# Altium footprint library IC_SMD_DUAL.PCBLIB: 187 footprints (part 5 of 12)
Each footprint in its own frame and in the unit in brackets; x right, y up, seen from the top. Pads: shape width x height; smd on the part's side, far side on the other; paste and mask are expansions set on the pad; w line width, h text height; cw(c..) or ccw(c..) is an arc to the next point about the centre after c.
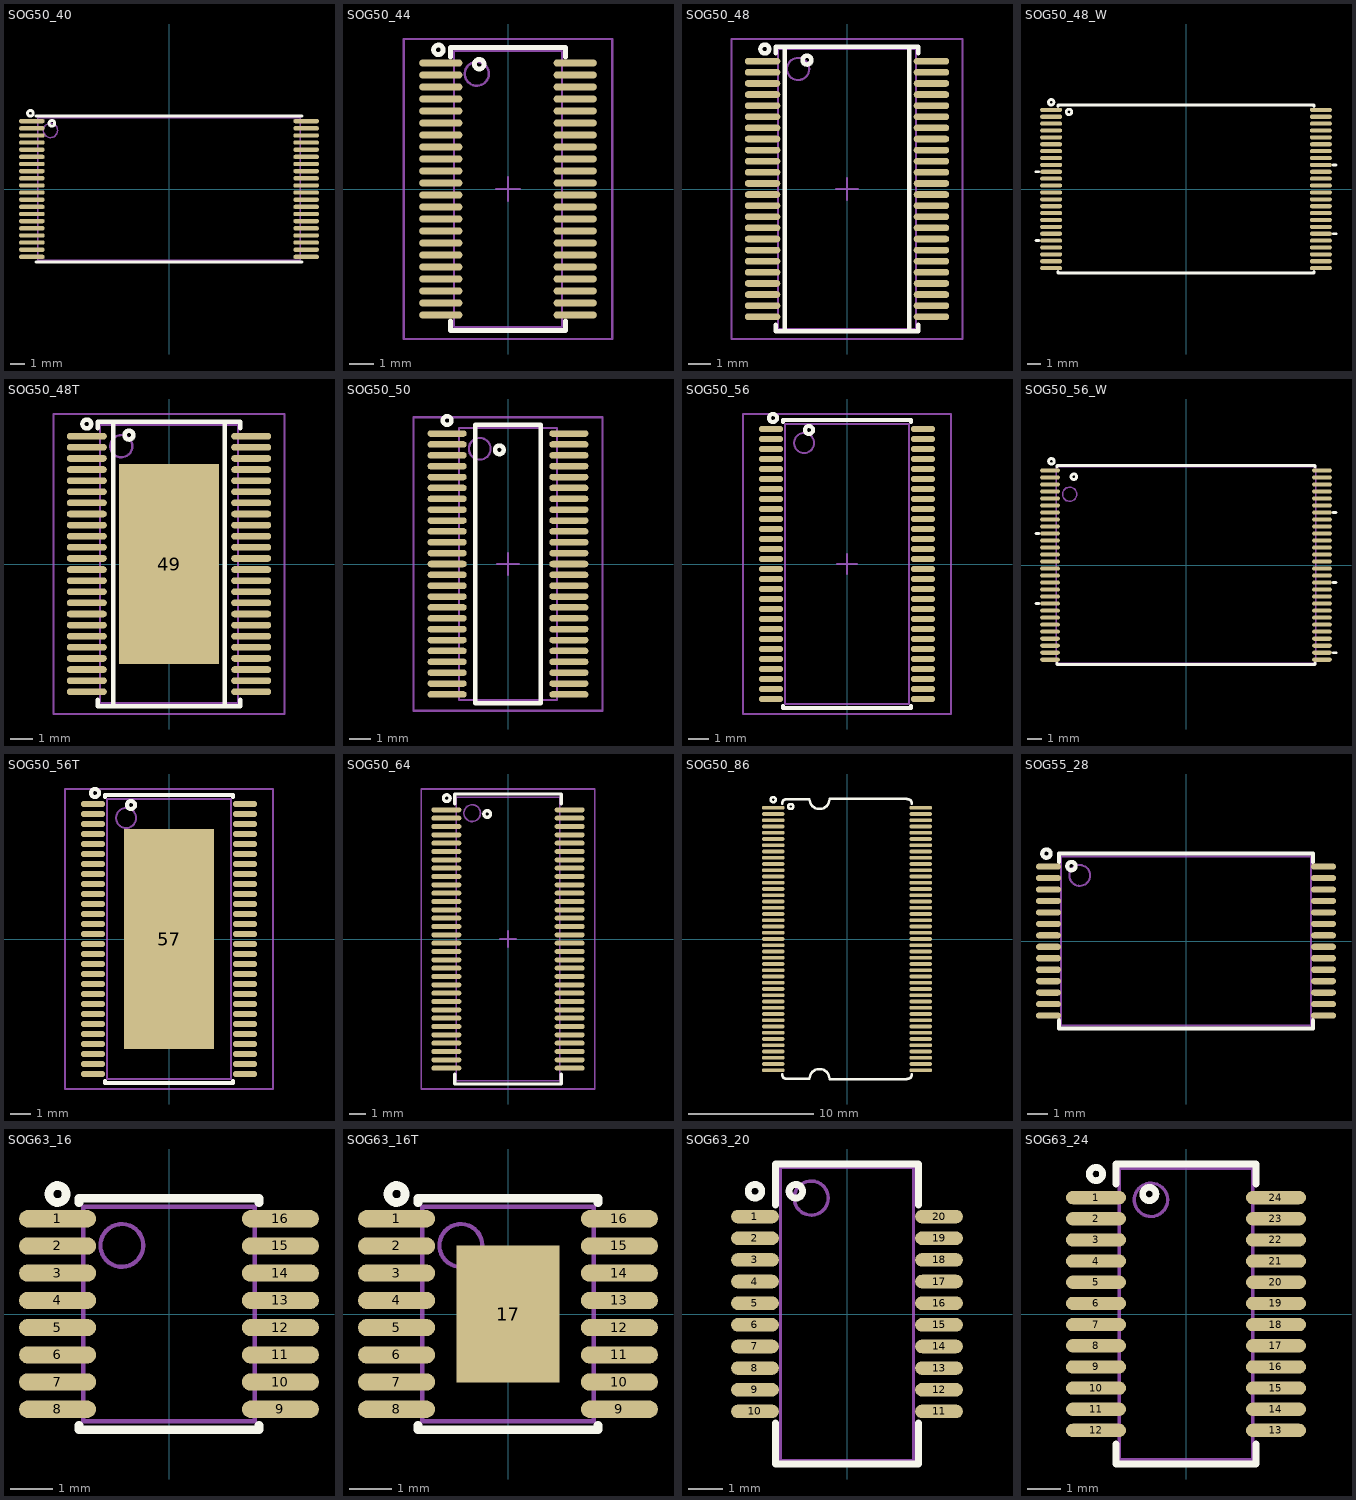
[diagram p4: the footprints below, top view; thin cyan lines are the x and y axes]

## SOG50_40 [mm] "TS040, TSOP40, TSSOP, 40-Leads, Body 10.00x18.40mm, Pitch 0.50mm"
height 1.2
pads (40):
  oval 1.8x0.3 smd mask+0.075: 1(-9.6,4.75) 2(-9.6,4.25) 3(-9.6,3.75) 4(-9.6,3.25) 5(-9.6,2.75) 6(-9.6,2.25) 7(-9.6,1.75) 8(-9.6,1.25) 9(-9.6,0.75) 10(-9.6,0.25) 11(-9.6,-0.25) 12(-9.6,-0.75) 13(-9.6,-1.25) 14(-9.6,-1.75) 15(-9.6,-2.25) 16(-9.6,-2.75) 17(-9.6,-3.25) 18(-9.6,-3.75) 19(-9.6,-4.25) 20(-9.6,-4.75) 21(9.6,-4.75) 22(9.6,-4.25) 23(9.6,-3.75) 24(9.6,-3.25) 25(9.6,-2.75) 26(9.6,-2.25) 27(9.6,-1.75) 28(9.6,-1.25) 29(9.6,-0.75) 30(9.6,-0.25) 31(9.6,0.25) 32(9.6,0.75) 33(9.6,1.25) 34(9.6,1.75) 35(9.6,2.25) 36(9.6,2.75) 37(9.6,3.25) 38(9.6,3.75) 39(9.6,4.25) 40(9.6,4.75)
TopOverlay:
  circle w0.2: c-8.2,4.6 r0.2
  circle w0.2: c-9.7,5.3 r0.2
  lines w0.2: -9.3,-5.1 9.3,-5.1 ; -9.3,5.1 9.3,5.1
Mechanical13:
  circle w0.1: c-8.3,4.1 r0.5
  lines w0.1: -9.2,-5 9.2,-5 9.2,5 -9.2,5 -9.2,-5
3D body: height 1.2, standoff 0.05, extent -9.2,-5 9.2,5

## SOG50_44 [mm] "DBT TSSOP (TI), MO-153 (JEDEC), 44Lead, pitch: 0.5mm, 11.5x4.4x1.2mm"
height 1.2
pads (44):
  oval 1.8x0.3 smd mask+0.075: 1(-2.8,5.25) 2(-2.8,4.75) 3(-2.8,4.25) 4(-2.8,3.75) 5(-2.8,3.25) 6(-2.8,2.75) 7(-2.8,2.25) 8(-2.8,1.75) 9(-2.8,1.25) 10(-2.8,0.75) 11(-2.8,0.25) 12(-2.8,-0.25) 13(-2.8,-0.75) 14(-2.8,-1.25) 15(-2.8,-1.75) 16(-2.8,-2.25) 17(-2.8,-2.75) 18(-2.8,-3.25) 19(-2.8,-3.75) 20(-2.8,-4.25) 21(-2.8,-4.75) 22(-2.8,-5.25) 23(2.8,-5.25) 24(2.8,-4.75) 25(2.8,-4.25) 26(2.8,-3.75) 27(2.8,-3.25) 28(2.8,-2.75) 29(2.8,-2.25) 30(2.8,-1.75) 31(2.8,-1.25) 32(2.8,-0.75) 33(2.8,-0.25) 34(2.8,0.25) 35(2.8,0.75) 36(2.8,1.25) 37(2.8,1.75) 38(2.8,2.25) 39(2.8,2.75) 40(2.8,3.25) 41(2.8,3.75) 42(2.8,4.25) 43(2.8,4.75) 44(2.8,5.25)
TopOverlay:
  circle w0.2: c-1.2,5.2 r0.2
  circle w0.2: c-2.9,5.8 r0.2
  lines w0.2: -2.4,-5.5 -2.4,-5.9 2.4,-5.9 2.4,-5.5 ; -2.4,5.5 -2.4,5.9 2.4,5.9 2.4,5.5
Mechanical13:
  circle w0.1: c-1.3,4.8 r0.5
  lines w0.1: -2.25,-5.75 2.25,-5.75 2.25,5.75 -2.25,5.75 -2.25,-5.75
Mechanical15:
  lines w0.1: -0.5,0 0.5,0 ; 0,-0.5 0,0.5 ; -4.35,-6.25 4.35,-6.25 4.35,6.25 -4.35,6.25 -4.35,-6.25
3D body: height 1.2, standoff 0.05, extent -2.25,-5.75 2.25,5.75

## SOG50_48 [mm] "DGG, MO-153-ED, SOT362-1, TSSOP48, pitch: 0.5mm, 12.5x6.1x1.2mm"
height 1.2
pads (48):
  oval 1.6x0.3 smd mask+0.075: 1(-3.8,5.75) 2(-3.8,5.25) 3(-3.8,4.75) 4(-3.8,4.25) 5(-3.8,3.75) 6(-3.8,3.25) 7(-3.8,2.75) 8(-3.8,2.25) 9(-3.8,1.75) 10(-3.8,1.25) 11(-3.8,0.75) 12(-3.8,0.25) 13(-3.8,-0.25) 14(-3.8,-0.75) 15(-3.8,-1.25) 16(-3.8,-1.75) 17(-3.8,-2.25) 18(-3.8,-2.75) 19(-3.8,-3.25) 20(-3.8,-3.75) 21(-3.8,-4.25) 22(-3.8,-4.75) 23(-3.8,-5.25) 24(-3.8,-5.75) 25(3.8,-5.75) 26(3.8,-5.25) 27(3.8,-4.75) 28(3.8,-4.25) 29(3.8,-3.75) 30(3.8,-3.25) 31(3.8,-2.75) 32(3.8,-2.25) 33(3.8,-1.75) 34(3.8,-1.25) 35(3.8,-0.75) 36(3.8,-0.25) 37(3.8,0.25) 38(3.8,0.75) 39(3.8,1.25) 40(3.8,1.75) 41(3.8,2.25) 42(3.8,2.75) 43(3.8,3.25) 44(3.8,3.75) 45(3.8,4.25) 46(3.8,4.75) 47(3.8,5.25) 48(3.8,5.75)
TopOverlay:
  circle w0.2: c-1.8,5.8 r0.2
  circle w0.2: c-3.7,6.3 r0.2
  lines w0.2: -3.2,-6.1 -3.2,-6.4 -2.5,-6.4 2.5,-6.4 3.2,-6.4 3.2,-6.1 ; -3.2,6.1 -3.2,6.4 -2.5,6.4 2.5,6.4 3.2,6.4 3.2,6.1 ; -2.8,-6.4 -2.8,6.4 ; 2.8,-6.4 2.8,6.4
Mechanical13:
  circle w0.1: c-2.2,5.4 r0.5
  lines w0.1: -3.1,-6.3 3.1,-6.3 3.1,6.3 -3.1,6.3 -3.1,-6.3
Mechanical15:
  lines w0.1: -0.5,0 0.5,0 ; 0,-0.5 0,0.5 ; -5.2,-6.75 -5.2,6.75 5.2,6.75 5.2,-6.75 -5.2,-6.75
3D body "SOg50_48-.step": height 1.2, standoff 0, extent -4.05,-6.3 4.05,6.3

## SOG50_48_W [mm] "TSOP I, 12x20mm, pitch: 0.5mm"
height 1.2
pads (48):
  oval 1.6x0.3 smd mask+0.075: 1(-9.8,5.75) 2(-9.8,5.25) 3(-9.8,4.75) 4(-9.8,4.25) 5(-9.8,3.75) 6(-9.8,3.25) 7(-9.8,2.75) 8(-9.8,2.25) 9(-9.8,1.75) 10(-9.8,1.25) 11(-9.8,0.75) 12(-9.8,0.25) 13(-9.8,-0.25) 14(-9.8,-0.75) 15(-9.8,-1.25) 16(-9.8,-1.75) 17(-9.8,-2.25) 18(-9.8,-2.75) 19(-9.8,-3.25) 20(-9.8,-3.75) 21(-9.8,-4.25) 22(-9.8,-4.75) 23(-9.8,-5.25) 24(-9.8,-5.75) 25(9.8,-5.75) 26(9.8,-5.25) 27(9.8,-4.75) 28(9.8,-4.25) 29(9.8,-3.75) 30(9.8,-3.25) 31(9.8,-2.75) 32(9.8,-2.25) 33(9.8,-1.75) 34(9.8,-1.25) 35(9.8,-0.75) 36(9.8,-0.25) 37(9.8,0.25) 38(9.8,0.75) 39(9.8,1.25) 40(9.8,1.75) 41(9.8,2.25) 42(9.8,2.75) 43(9.8,3.25) 44(9.8,3.75) 45(9.8,4.25) 46(9.8,4.75) 47(9.8,5.25) 48(9.8,5.75)
TopOverlay:
  circle w0.2: c-8.5,5.6 r0.2
  circle w0.2: c-9.8,6.3 r0.2
  lines w0.2: -10.9,-3.75 -10.7,-3.75 ; -10.9,1.25 -10.7,1.25 ; -9.3,-6 -9.3,-6.1 9.3,-6.1 9.3,-6 ; -9.3,6 -9.3,6.1 9.3,6.1 9.3,6 ; 10.7,-3.25 10.9,-3.25 ; 10.7,1.75 10.9,1.75
3D body "User Library-TSOP48-1.STEP": height 1.2, standoff 0, extent -10.1,-6.05 10.1,6.05

## SOG50_48T [mm] "TSSOP 6.1mm(MAXIM), MO-153-EDT (JEDEC), 48Lead, pitch: 0.5mm, 12.5x6.1x1.2mm"
height 1.2
pads (49):
  oval 1.8x0.3 smd mask+0.075: 1(-3.7,5.75) 2(-3.7,5.25) 3(-3.7,4.75) 4(-3.7,4.25) 5(-3.7,3.75) 6(-3.7,3.25) 7(-3.7,2.75) 8(-3.7,2.25) 9(-3.7,1.75) 10(-3.7,1.25) 11(-3.7,0.75) 12(-3.7,0.25) 13(-3.7,-0.25) 14(-3.7,-0.75) 15(-3.7,-1.25) 16(-3.7,-1.75) 17(-3.7,-2.25) 18(-3.7,-2.75) 19(-3.7,-3.25) 20(-3.7,-3.75) 21(-3.7,-4.25) 22(-3.7,-4.75) 23(-3.7,-5.25) 24(-3.7,-5.75) 25(3.7,-5.75) 26(3.7,-5.25) 27(3.7,-4.75) 28(3.7,-4.25) 29(3.7,-3.75) 30(3.7,-3.25) 31(3.7,-2.75) 32(3.7,-2.25) 33(3.7,-1.75) 34(3.7,-1.25) 35(3.7,-0.75) 36(3.7,-0.25) 37(3.7,0.25) 38(3.7,0.75) 39(3.7,1.25) 40(3.7,1.75) 41(3.7,2.25) 42(3.7,2.75) 43(3.7,3.25) 44(3.7,3.75) 45(3.7,4.25) 46(3.7,4.75) 47(3.7,5.25) 48(3.7,5.75)
  rect 4.5x9 smd paste-5 mask+0.1: 49(0,0)
TopOverlay:
  circle w0.2: c-3.7,6.3 r0.2
  circle w0.2: c-1.8,5.8 r0.2
  lines w0.2: -3.2,-6.1 -3.2,-6.4 -2.5,-6.4 ; -3.2,6.1 -3.2,6.4 -2.5,6.4 ; 3.2,-6.1 3.2,-6.4 2.5,-6.4 ; 3.2,6.1 3.2,6.4 2.5,6.4 ; -2.5,-6.4 -2.5,6.4 ; -2.5,-6.4 2.5,-6.4 ; -2.5,6.4 2.5,6.4 ; 2.5,-6.4 2.5,6.4
TopPaste:
  region: -0.2,0.2 -0.2,2 -2,2 -2,0.2
  region: -0.2,2.4 -0.2,4.2 -2,4.2 -2,2.4
  region: 2,2.4 2,4.2 0.2,4.2 0.2,2.4
  region: 2,0.2 2,2 0.2,2 0.2,0.2
  region: 0.2,-0.2 0.2,-2 2,-2 2,-0.2
  region: 0.2,-2.4 0.2,-4.2 2,-4.2 2,-2.4
  region: -2,-2.4 -2,-4.2 -0.2,-4.2 -0.2,-2.4
  region: -2,-0.2 -2,-2 -0.2,-2 -0.2,-0.2
Mechanical13:
  circle w0.1: c-2.15,5.3 r0.5
  lines w0.1: -3.1,-6.25 3.1,-6.25 3.1,6.25 -3.1,6.25 -3.1,-6.25
Mechanical15:
  lines w0.1: -0.5,0 0.5,0 ; 0,-0.5 0,0.5 ; -5.2,-6.75 5.2,-6.75 5.2,6.75 -5.2,6.75 -5.2,-6.75
3D body "SOg50_48-.step": height 1.2, standoff 0, extent -4.05,-6.3 4.05,6.3

## SOG50_50 [mm] "DBT TSSOP (TI), MO-153 (JEDEC), 50Lead, pitch: 0.5mm, 12.5x4.4x1.2mm"
height 1.2
pads (50):
  oval 1.8x0.3 smd mask+0.075: 1(-2.8,6) 2(-2.8,5.5) 3(-2.8,5) 4(-2.8,4.5) 5(-2.8,4) 6(-2.8,3.5) 7(-2.8,3) 8(-2.8,2.5) 9(-2.8,2) 10(-2.8,1.5) 11(-2.8,1) 12(-2.8,0.5) 13(-2.8,0) 14(-2.8,-0.5) 15(-2.8,-1) 16(-2.8,-1.5) 17(-2.8,-2) 18(-2.8,-2.5) 19(-2.8,-3) 20(-2.8,-3.5) 21(-2.8,-4) 22(-2.8,-4.5) 23(-2.8,-5) 24(-2.8,-5.5) 25(-2.8,-6) 26(2.8,-6) 27(2.8,-5.5) 28(2.8,-5) 29(2.8,-4.5) 30(2.8,-4) 31(2.8,-3.5) 32(2.8,-3) 33(2.8,-2.5) 34(2.8,-2) 35(2.8,-1.5) 36(2.8,-1) 37(2.8,-0.5) 38(2.8,0) 39(2.8,0.5) 40(2.8,1) 41(2.8,1.5) 42(2.8,2) 43(2.8,2.5) 44(2.8,3) 45(2.8,3.5) 46(2.8,4) 47(2.8,4.5) 48(2.8,5) 49(2.8,5.5) 50(2.8,6)
TopOverlay:
  circle w0.2: c-2.8,6.6 r0.2
  circle w0.2: c-0.4,5.25 r0.2
  lines w0.2: -1.5,-6.4 -1.5,6.4 1.5,6.4 1.5,-6.4 -1.5,-6.4
Mechanical13:
  circle w0.1: c-1.3,5.3 r0.5
  lines w0.1: -2.25,-6.25 -2.25,6.25 2.25,6.25 2.25,-6.25 -2.25,-6.25
Mechanical15:
  lines w0.1: -0.5,0 0.5,0 ; 0,-0.5 0,0.5 ; -4.35,-6.75 -4.35,6.75 4.35,6.75 4.35,-6.75 -4.35,-6.75
3D body: height 1.2, standoff 0.05, extent -2.25,-6.25 2.25,6.25

## SOG50_56 [mm] "DGG TSSOP (TI), MO-153-EE (JEDEC), 56Lead, pitch: 0.5mm, 14x6.1x1.2mm"
height 1.2
pads (56):
  oval 1.2x0.3 smd mask+0.075: 1(-3.8,6.75) 2(-3.8,6.25) 3(-3.8,5.75) 4(-3.8,5.25) 5(-3.8,4.75) 6(-3.8,4.25) 7(-3.8,3.75) 8(-3.8,3.25) 9(-3.8,2.75) 10(-3.8,2.25) 11(-3.8,1.75) 12(-3.8,1.25) 13(-3.8,0.75) 14(-3.8,0.25) 15(-3.8,-0.25) 16(-3.8,-0.75) 17(-3.8,-1.25) 18(-3.8,-1.75) 19(-3.8,-2.25) 20(-3.8,-2.75) 21(-3.8,-3.25) 22(-3.8,-3.75) 23(-3.8,-4.25) 24(-3.8,-4.75) 25(-3.8,-5.25) 26(-3.8,-5.75) 27(-3.8,-6.25) 28(-3.8,-6.75) 29(3.8,-6.75) 30(3.8,-6.25) 31(3.8,-5.75) 32(3.8,-5.25) 33(3.8,-4.75) 34(3.8,-4.25) 35(3.8,-3.75) 36(3.8,-3.25) 37(3.8,-2.75) 38(3.8,-2.25) 39(3.8,-1.75) 40(3.8,-1.25) 41(3.8,-0.75) 42(3.8,-0.25) 43(3.8,0.25) 44(3.8,0.75) 45(3.8,1.25) 46(3.8,1.75) 47(3.8,2.25) 48(3.8,2.75) 49(3.8,3.25) 50(3.8,3.75) 51(3.8,4.25) 52(3.8,4.75) 53(3.8,5.25) 54(3.8,5.75) 55(3.8,6.25) 56(3.8,6.75)
TopOverlay:
  circle w0.2: c-3.7,7.3 r0.2
  circle w0.2: c-1.9,6.7 r0.2
  lines w0.2: -3.2,-7.1 -3.2,-7.2 -2.5,-7.2 2.5,-7.2 3.2,-7.2 3.2,-7.1 ; -3.2,7.1 -3.2,7.2 -2.5,7.2 2.5,7.2 3.2,7.2 3.2,7.1
Mechanical13:
  circle w0.1: c-2.15,6.05 r0.5
  lines w0.1: -3.1,-7 3.1,-7 3.1,7 -3.1,7 -3.1,-7
Mechanical15:
  lines w0.1: -0.5,0 0.5,0 ; 0,-0.5 0,0.5 ; -5.2,-7.5 5.2,-7.5 5.2,7.5 -5.2,7.5 -5.2,-7.5
3D body "User Library-TSSOP-56 14_1x6_2.STEP": height 1.1, standoff 0, extent -3.95,-7.05 3.95,7.05

## SOG50_56_W [mm] "TSOP56, TS056, pitch: 0.5mm, 18.4x14mm"
height 1.2
pads (56):
  oval 1.4x0.3 smd mask+0.075: 1(-9.7,6.75) 2(-9.7,6.25) 3(-9.7,5.75) 4(-9.7,5.25) 5(-9.7,4.75) 6(-9.7,4.25) 7(-9.7,3.75) 8(-9.7,3.25) 9(-9.7,2.75) 10(-9.7,2.25) 11(-9.7,1.75) 12(-9.7,1.25) 13(-9.7,0.75) 14(-9.7,0.25) 15(-9.7,-0.25) 16(-9.7,-0.75) 17(-9.7,-1.25) 18(-9.7,-1.75) 19(-9.7,-2.25) 20(-9.7,-2.75) 21(-9.7,-3.25) 22(-9.7,-3.75) 23(-9.7,-4.25) 24(-9.7,-4.75) 25(-9.7,-5.25) 26(-9.7,-5.75) 27(-9.7,-6.25) 28(-9.7,-6.75) 29(9.7,-6.75) 30(9.7,-6.25) 31(9.7,-5.75) 32(9.7,-5.25) 33(9.7,-4.75) 34(9.7,-4.25) 35(9.7,-3.75) 36(9.7,-3.25) 37(9.7,-2.75) 38(9.7,-2.25) 39(9.7,-1.75) 40(9.7,-1.25) 41(9.7,-0.75) 42(9.7,-0.25) 43(9.7,0.25) 44(9.7,0.75) 45(9.7,1.25) 46(9.7,1.75) 47(9.7,2.25) 48(9.7,2.75) 49(9.7,3.25) 50(9.7,3.75) 51(9.7,4.25) 52(9.7,4.75) 53(9.7,5.25) 54(9.7,5.75) 55(9.7,6.25) 56(9.7,6.75)
TopOverlay:
  circle w0.2: c-9.6,7.4 r0.2
  circle w0.2: c-8,6.3 r0.2
  lines w0.2: -10.7,-2.75 -10.5,-2.75 ; -10.7,2.25 -10.5,2.25 ; -9.2,-7 -9.2,-7.1 9.2,-7.1 9.2,-7 ; -9.2,7 -9.2,7.1 9.2,7.1 9.2,7 ; 10.5,-6.25 10.7,-6.25 ; 10.5,-1.25 10.7,-1.25 ; 10.5,3.75 10.7,3.75
Mechanical13:
  circle w0.1: c-8.3,5.05 r0.5
  lines w0.1: -9.25,-7 -9.25,7 9.25,7 9.25,-7 -9.25,-7
3D body "User Library-TSOP1-56_NU.STEP": height 1.29, standoff -0.39, extent -10.017,-7.27 10.1,7.27

## SOG50_56T [mm] "TSSOP, MO-153-EET (JEDEC), 56Lead, pitch: 0.5mm, 14x6.1x1.2mm"
height 1.2
pads (57):
  oval 1.2x0.3 smd mask+0.075: 1(-3.8,6.75) 2(-3.8,6.25) 3(-3.8,5.75) 4(-3.8,5.25) 5(-3.8,4.75) 6(-3.8,4.25) 7(-3.8,3.75) 8(-3.8,3.25) 9(-3.8,2.75) 10(-3.8,2.25) 11(-3.8,1.75) 12(-3.8,1.25) 13(-3.8,0.75) 14(-3.8,0.25) 15(-3.8,-0.25) 16(-3.8,-0.75) 17(-3.8,-1.25) 18(-3.8,-1.75) 19(-3.8,-2.25) 20(-3.8,-2.75) 21(-3.8,-3.25) 22(-3.8,-3.75) 23(-3.8,-4.25) 24(-3.8,-4.75) 25(-3.8,-5.25) 26(-3.8,-5.75) 27(-3.8,-6.25) 28(-3.8,-6.75) 29(3.8,-6.75) 30(3.8,-6.25) 31(3.8,-5.75) 32(3.8,-5.25) 33(3.8,-4.75) 34(3.8,-4.25) 35(3.8,-3.75) 36(3.8,-3.25) 37(3.8,-2.75) 38(3.8,-2.25) 39(3.8,-1.75) 40(3.8,-1.25) 41(3.8,-0.75) 42(3.8,-0.25) 43(3.8,0.25) 44(3.8,0.75) 45(3.8,1.25) 46(3.8,1.75) 47(3.8,2.25) 48(3.8,2.75) 49(3.8,3.25) 50(3.8,3.75) 51(3.8,4.25) 52(3.8,4.75) 53(3.8,5.25) 54(3.8,5.75) 55(3.8,6.25) 56(3.8,6.75)
  rect 4.5x11 smd paste-6 mask+0.1: 57(0,0)
TopOverlay:
  circle w0.2: c-1.9,6.7 r0.2
  circle w0.2: c-3.7,7.3 r0.2
  lines w0.2: -3.2,-7.1 -3.2,-7.2 -2.5,-7.2 2.5,-7.2 3.2,-7.2 3.2,-7.1 ; -3.2,7.1 -3.2,7.2 -2.5,7.2 2.5,7.2 3.2,7.2 3.2,7.1
TopPaste:
  region: 0.2,-0.2 0.2,-2 2,-2 2,-0.2
  region: 0.2,-2.4 0.2,-4.2 2,-4.2 2,-2.4
  region: -2,-2.4 -2,-4.2 -0.2,-4.2 -0.2,-2.4
  region: -2,-0.2 -2,-2 -0.2,-2 -0.2,-0.2
  region: 2,0.2 2,2 0.2,2 0.2,0.2
  region: 2,2.4 2,4.2 0.2,4.2 0.2,2.4
  region: -0.2,2.4 -0.2,4.2 -2,4.2 -2,2.4
  region: -0.2,0.2 -0.2,2 -2,2 -2,0.2
  rectangle: -2,4.6 -0.2,5.3
  rectangle: 0.1,4.6 1.9,5.3
  rectangle: -2,-5.3 -0.2,-4.6
  rectangle: 0.2,-5.3 2,-4.6
Mechanical13:
  circle w0.1: c-2.15,6.05 r0.5
  lines w0.1: -3.1,-7 3.1,-7 3.1,7 -3.1,7 -3.1,-7
Mechanical15:
  lines w0.1: -0.5,0 0.5,0 ; 0,-0.5 0,0.5 ; -5.2,-7.5 5.2,-7.5 5.2,7.5 -5.2,7.5 -5.2,-7.5
3D body "User Library-TSSOP-56 14_1x6_2.STEP": height 1.1, standoff 0, extent -3.95,-7.05 3.95,7.05

## SOG50_64 [mm] "DGG TSSOP (TI), MO-153 (JEDEC), 64Lead, pitch: 0.5mm, 17x6.1x1.2mm"
height 1.2
pads (64):
  oval 1.8x0.3 smd mask+0.075: 1(-3.7,7.75) 2(-3.7,7.25) 3(-3.7,6.75) 4(-3.7,6.25) 5(-3.7,5.75) 6(-3.7,5.25) 7(-3.7,4.75) 8(-3.7,4.25) 9(-3.7,3.75) 10(-3.7,3.25) 11(-3.7,2.75) 12(-3.7,2.25) 13(-3.7,1.75) 14(-3.7,1.25) 15(-3.7,0.75) 16(-3.7,0.25) 17(-3.7,-0.25) 18(-3.7,-0.75) 19(-3.7,-1.25) 20(-3.7,-1.75) 21(-3.7,-2.25) 22(-3.7,-2.75) 23(-3.7,-3.25) 24(-3.7,-3.75) 25(-3.7,-4.25) 26(-3.7,-4.75) 27(-3.7,-5.25) 28(-3.7,-5.75) 29(-3.7,-6.25) 30(-3.7,-6.75) 31(-3.7,-7.25) 32(-3.7,-7.75) 33(3.7,-7.75) 34(3.7,-7.25) 35(3.7,-6.75) 36(3.7,-6.25) 37(3.7,-5.75) 38(3.7,-5.25) 39(3.7,-4.75) 40(3.7,-4.25) 41(3.7,-3.75) 42(3.7,-3.25) 43(3.7,-2.75) 44(3.7,-2.25) 45(3.7,-1.75) 46(3.7,-1.25) 47(3.7,-0.75) 48(3.7,-0.25) 49(3.7,0.25) 50(3.7,0.75) 51(3.7,1.25) 52(3.7,1.75) 53(3.7,2.25) 54(3.7,2.75) 55(3.7,3.25) 56(3.7,3.75) 57(3.7,4.25) 58(3.7,4.75) 59(3.7,5.25) 60(3.7,5.75) 61(3.7,6.25) 62(3.7,6.75) 63(3.7,7.25) 64(3.7,7.75)
TopOverlay:
  circle w0.2: c-3.675,8.45 r0.2
  circle w0.2: c-1.25,7.5 r0.2
  lines w0.2: -3.2,-8.1 -3.2,-8.7 3.2,-8.7 3.2,-8.1 ; -3.2,8.1 -3.2,8.7 3.2,8.7 3.2,8.1
Mechanical13:
  circle w0.1: c-2.15,7.55 r0.5
  lines w0.1: -3.1,-8.5 -3.1,8.5 3.1,8.5 3.1,-8.5 -3.1,-8.5
Mechanical15:
  lines w0.1: -0.5,0 0.5,0 ; 0,-0.5 0,0.5 ; -5.2,-9 -5.2,9 5.2,9 5.2,-9 -5.2,-9
3D body: height 1.2, standoff 0.05, extent -3.1,-8.5 3.1,8.5

## SOG50_86 [mm] "TSOPII-86"
pads (86):
  oval 1.8x0.3 smd mask+0.075: 1(-5.9,10.5) 2(-5.9,10) 3(-5.9,9.5) 4(-5.9,9) 5(-5.9,8.5) 6(-5.9,8) 7(-5.9,7.5) 8(-5.9,7) 9(-5.9,6.5) 10(-5.9,6) 11(-5.9,5.5) 12(-5.9,5) 13(-5.9,4.5) 14(-5.9,4) 15(-5.9,3.5) 16(-5.9,3) 17(-5.9,2.5) 18(-5.9,2) 19(-5.9,1.5) 20(-5.9,1) 21(-5.9,0.5) 22(-5.9,0) 23(-5.9,-0.5) 24(-5.9,-1) 25(-5.9,-1.5) 26(-5.9,-2) 27(-5.9,-2.5) 28(-5.9,-3) 29(-5.9,-3.5) 30(-5.9,-4) 31(-5.9,-4.5) 32(-5.9,-5) 33(-5.9,-5.5) 34(-5.9,-6) 35(-5.9,-6.5) 36(-5.9,-7) 37(-5.9,-7.5) 38(-5.9,-8) 39(-5.9,-8.5) 40(-5.9,-9) 41(-5.9,-9.5) 42(-5.9,-10) 43(-5.9,-10.5) 44(5.9,-10.5) 45(5.9,-10) 46(5.9,-9.5) 47(5.9,-9) 48(5.9,-8.5) 49(5.9,-8) 50(5.9,-7.5) 51(5.9,-7) 52(5.9,-6.5) 53(5.9,-6) 54(5.9,-5.5) 55(5.9,-5) 56(5.9,-4.5) 57(5.9,-4) 58(5.9,-3.5) 59(5.9,-3) 60(5.9,-2.5) 61(5.9,-2) 62(5.9,-1.5) 63(5.9,-1) 64(5.9,-0.5) 65(5.9,0) 66(5.9,0.5) 67(5.9,1) 68(5.9,1.5) 69(5.9,2) 70(5.9,2.5) 71(5.9,3) 72(5.9,3.5) 73(5.9,4) 74(5.9,4.5) 75(5.9,5) 76(5.9,5.5) 77(5.9,6) 78(5.9,6.5) 79(5.9,7) 80(5.9,7.5) 81(5.9,8) 82(5.9,8.5) 83(5.9,9) 84(5.9,9.5) 85(5.9,10) 86(5.9,10.5)
TopOverlay:
  circle w0.2: c-5.9,11.145 r0.2
  circle w0.2: c-4.5,10.6 r0.2
  lines w0.2: -5.2,-10.8 ccw(c-4.8,-10.8) -4.8,-11.2 -3,-11.2 cw(c-2.2,-11.2) -1.4,-11.2 ; -5.2,10.8 cw(c-4.8,10.8) -4.8,11.2 -3,11.2 ccw(c-2.2,11.2) -1.4,11.2 ; -1.4,-11.208 4.8,-11.208 ; -1.4,11.208 4.8,11.208 ; 4.8,-11.2 ccw(c4.8,-10.8) 5.2,-10.8 ; 4.8,11.2 cw(c4.8,10.8) 5.2,10.8
3D body "User Library-TSOP-86.STEP": height 1.06, standoff -0.03, extent -5.895,-11 5.895,10.994

## SOG55_28 [mm] "Z28, TSSOP, 28-Leads, Body 8.10x12.00mm, Pitch 0.55mm"
height 1.2
pads (28):
  oval 1.2x0.3 smd mask+0.075: 1(-6.6,3.575) 2(-6.6,3.025) 3(-6.6,2.475) 4(-6.6,1.925) 5(-6.6,1.375) 6(-6.6,0.825) 7(-6.6,0.275) 8(-6.6,-0.275) 9(-6.6,-0.825) 10(-6.6,-1.375) 11(-6.6,-1.925) 12(-6.6,-2.475) 13(-6.6,-3.025) 14(-6.6,-3.575) 15(6.6,-3.575) 16(6.6,-3.025) 17(6.6,-2.475) 18(6.6,-1.925) 19(6.6,-1.375) 20(6.6,-0.825) 21(6.6,-0.275) 22(6.6,0.275) 23(6.6,0.825) 24(6.6,1.375) 25(6.6,1.925) 26(6.6,2.475) 27(6.6,3.025) 28(6.6,3.575)
TopOverlay:
  circle w0.2: c-5.5,3.6 r0.2
  circle w0.2: c-6.7,4.2 r0.2
  lines w0.2: -6.1,-3.8 -6.1,-4.2 6.1,-4.2 6.1,-3.8 ; -6.1,3.8 -6.1,4.2 6.1,4.2 6.1,3.8
Mechanical13:
  circle w0.1: c-5.1,3.15 r0.5
  lines w0.1: -6,-4.05 6,-4.05 6,4.05 -6,4.05 -6,-4.05
3D body "SOG55_28.step": height 1.2, standoff 0, extent -6.8,-4.05 6.8,4.05

## SOG63_16 [mm] "SOP DBQ, QSOP, 16-Leads, Body 4.90x3.90mm, Pitch 0.635mm"
height 1.65
pads (16):
  oval 1.8x0.4 smd mask+0.075: 1(-2.6,2.222) 2(-2.6,1.587) 3(-2.6,0.953) 4(-2.6,0.318) 5(-2.6,-0.318) 6(-2.6,-0.953) 7(-2.6,-1.587) 8(-2.6,-2.222) 9(2.6,-2.222) 10(2.6,-1.587) 11(2.6,-0.953) 12(2.6,-0.318) 13(2.6,0.318) 14(2.6,0.953) 15(2.6,1.587) 16(2.6,2.222)
TopOverlay:
  circle w0.2: c-2.6,2.8 r0.2
  lines w0.2: -2.1,-2.6 -2.1,-2.7 2.1,-2.7 2.1,-2.6 ; -2.1,2.6 -2.1,2.7 2.1,2.7 2.1,2.6
Mechanical13:
  circle w0.1: c-1.1,1.6 r0.5
  lines w0.1: -2,-2.5 2,-2.5 2,2.5 -2,2.5 -2,-2.5
3D body "User Library-MAX_QSOP16.step": height 1.76, standoff -0.01, extent -3.01,-2.49 3.01,2.49

## SOG63_16T [mm] "SOP, 16-Leads, Body 4.90x3.90mm, Pitch 0.64mm, Thermal Pad 3.30.2x2.44.2mm, IPC Medium Density"
height 1.65
pads (17):
  oval 1.8x0.4 smd mask+0.075: 1(-2.6,2.222) 2(-2.6,1.587) 3(-2.6,0.953) 4(-2.6,0.318) 5(-2.6,-0.318) 6(-2.6,-0.953) 7(-2.6,-1.587) 8(-2.6,-2.222) 9(2.6,-2.222) 10(2.6,-1.587) 11(2.6,-0.953) 12(2.6,-0.318) 13(2.6,0.318) 14(2.6,0.953) 15(2.6,1.587) 16(2.6,2.222)
  rect 2.4x3.2 smd paste-5: 17(0,0)
TopOverlay:
  circle w0.2: c-2.6,2.8 r0.2
  lines w0.2: -2.1,-2.6 -2.1,-2.7 2.1,-2.7 2.1,-2.6 ; -2.1,2.6 -2.1,2.7 2.1,2.7 2.1,2.6
TopPaste:
  rectangle: -1,0.2 -0.2,1.4
  region: 1,1.4 0.2,1.4 0.2,0.2 1,0.2
  region: 1,-0.2 0.2,-0.2 0.2,-1.4 1,-1.4
  rectangle: -1,-1.4 -0.2,-0.2
Mechanical13:
  circle w0.1: c-1.1,1.6 r0.5
  lines w0.1: -2,-2.5 2,-2.5 2,2.5 -2,2.5 -2,-2.5
3D body "User Library-MAX_QSOP16.step": height 1.76, standoff -0.01, extent -3.01,-2.49 3.01,2.49

## SOG63_20 [mm] "SSOP, 20-Leads, 8.60xWidth: 3.90mm, Pitch 0.635mm"
height 1.8
pads (20):
  oval 1.4x0.4 smd mask+0.075: 1(-2.7,2.857) 2(-2.7,2.222) 3(-2.7,1.587) 4(-2.7,0.953) 5(-2.7,0.318) 6(-2.7,-0.318) 7(-2.7,-0.953) 8(-2.7,-1.587) 9(-2.7,-2.222) 10(-2.7,-2.857) 11(2.7,-2.857) 12(2.7,-2.222) 13(2.7,-1.587) 14(2.7,-0.953) 15(2.7,-0.318) 16(2.7,0.318) 17(2.7,0.953) 18(2.7,1.587) 19(2.7,2.222) 20(2.7,2.857)
TopOverlay:
  circle w0.2: c-2.7,3.6 r0.2
  circle w0.2: c-1.5,3.6 r0.2
  lines w0.2: -2.1,-3.2 -2.1,-4.4 2.1,-4.4 2.1,-3.2 ; -2.1,3.2 -2.1,4.4 2.1,4.4 2.1,3.2
Mechanical13:
  circle w0.1: c-1.05,3.4 r0.5
  lines w0.1: -1.95,-4.3 1.95,-4.3 1.95,4.3 -1.95,4.3 -1.95,-4.3
3D body "SOG63_20.step": height 1.8, standoff 0, extent -3,-4.3 3,4.3

## SOG63_24 [mm] "QSOP24, 8.6X3.9mm, 0.635mm pitch"
pads (24):
  oval 1.8x0.4 smd mask+0.075: 1(-2.7,3.492) 2(-2.7,2.857) 3(-2.7,2.222) 4(-2.7,1.587) 5(-2.7,0.953) 6(-2.7,0.318) 7(-2.7,-0.318) 8(-2.7,-0.953) 9(-2.7,-1.587) 10(-2.7,-2.222) 11(-2.7,-2.857) 12(-2.7,-3.492) 13(2.7,-3.492) 14(2.7,-2.857) 15(2.7,-2.222) 16(2.7,-1.587) 17(2.7,-0.953) 18(2.7,-0.318) 19(2.7,0.318) 20(2.7,0.953) 21(2.7,1.587) 22(2.7,2.222) 23(2.7,2.857) 24(2.7,3.492)
TopOverlay:
  circle w0.2: c-1.1,3.6 r0.2
  circle w0.2: c-2.7,4.2 r0.2
  lines w0.2: -2.1,-3.9 -2.1,-4.5 2.1,-4.5 2.1,-3.9 ; -2.1,3.9 -2.1,4.5 2.1,4.5 2.1,3.9
Mechanical13:
  circle w0.1: c-1.05,3.425 r0.5
  lines w0.1: -2,-4.375 2,-4.375 2,4.375 -2,4.375 -2,-4.375
3D body "LTC4417IGN#PBF.stp": height 1.75, standoff 0, extent -3.004,-4.324 3.004,4.325